# Altium schematic symbol library machada_interface_ICs.SchLib: 2 symbols
Pins are listed as number, name and electrical type; pins without a type are passive.

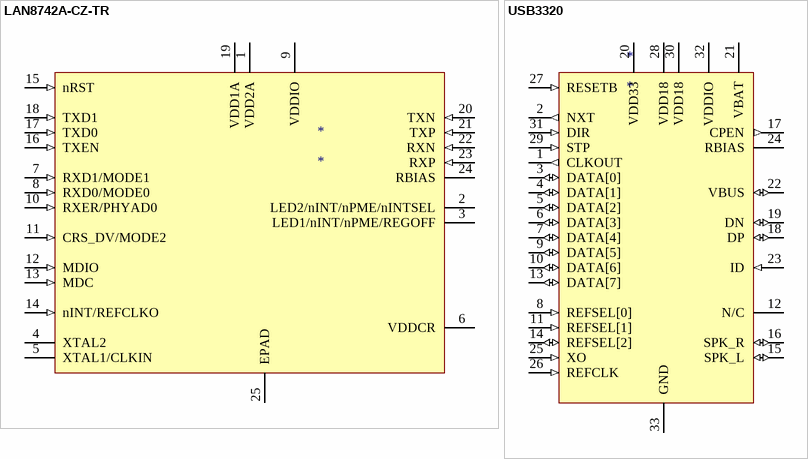
[diagram p0: symbols LAN8742A-CZ-TR to USB3320]

## LAN8742A-CZ-TR
designator *
footprint QFN-24_4mmX4mm_P0.5mm_1EP(2.5x2.5mm) - duplicate
pins: 1 VDD2A (power), 2 LED2/nINT/nPME/nINTSEL, 3 LED1/nINT/nPME/REGOFF, 4 XTAL2, 5 XTAL1/CLKIN, 6 VDDCR (power), 7 RXD1/MODE1 (in), 8 RXD0/MODE0 (in), 9 VDDIO (power), 10 RXER/PHYAD0 (in), 11 CRS_DV/MODE2 (in), 12 MDIO (in), 13 MDC (in), 14 nINT/REFCLKO (in), 15 nRST (in), 16 TXEN (in), 17 TXD0 (in), 18 TXD1 (in), 19 VDD1A (power), 20 TXN (in), 21 TXP (in), 22 RXN (in), 23 RXP (in), 24 RBIAS, 25 EPAD (power)

## USB3320
designator *
footprint QFN_32_5mmX5mm_P0.5mm_1EP_3.2mmX3.2mm - duplicate
pins: 1 CLKOUT (out), 2 NXT (out), 3 DATA[0] (io), 4 DATA[1] (io), 5 DATA[2] (io), 6 DATA[3] (io), 7 DATA[4] (io), 8 REFSEL[0] (in), 9 DATA[5] (io), 10 DATA[6] (io), 11 REFSEL[1] (in), 12 N/C (hiz), 13 DATA[7] (io), 14 REFSEL[2] (io), 15 SPK_L (io), 16 SPK_R (io), 17 CPEN (out), 18 DP (io), 19 DN (io), 20 VDD33 (power), 21 VBAT (power), 22 VBUS (io), 23 ID (in), 24 RBIAS, 25 XO (in), 26 REFCLK (in), 27 RESETB (in), 28 VDD18 (power), 29 STP (in), 30 VDD18 (power), 31 DIR (in), 32 VDDIO (power), 33 GND (power)